# Altium schematic symbol library RS-4.SchLib: 1 symbol
Pins are listed as number, name and electrical type; pins without a type are passive.

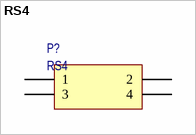
[diagram p0: symbol RS4]

## RS4
designator P?
footprint PS4
pins: 1, 2, 3, 4